# Altium footprint library Connectors Debug.PcbLib: 11 footprints
Each footprint in its own frame and in the unit in brackets; x right, y up, seen from the top. Pads: shape width x height; smd on the part's side, far side on the other; paste and mask are expansions set on the pad; w line width, h text height; cw(c..) or ccw(c..) is an arc to the next point about the centre after c.
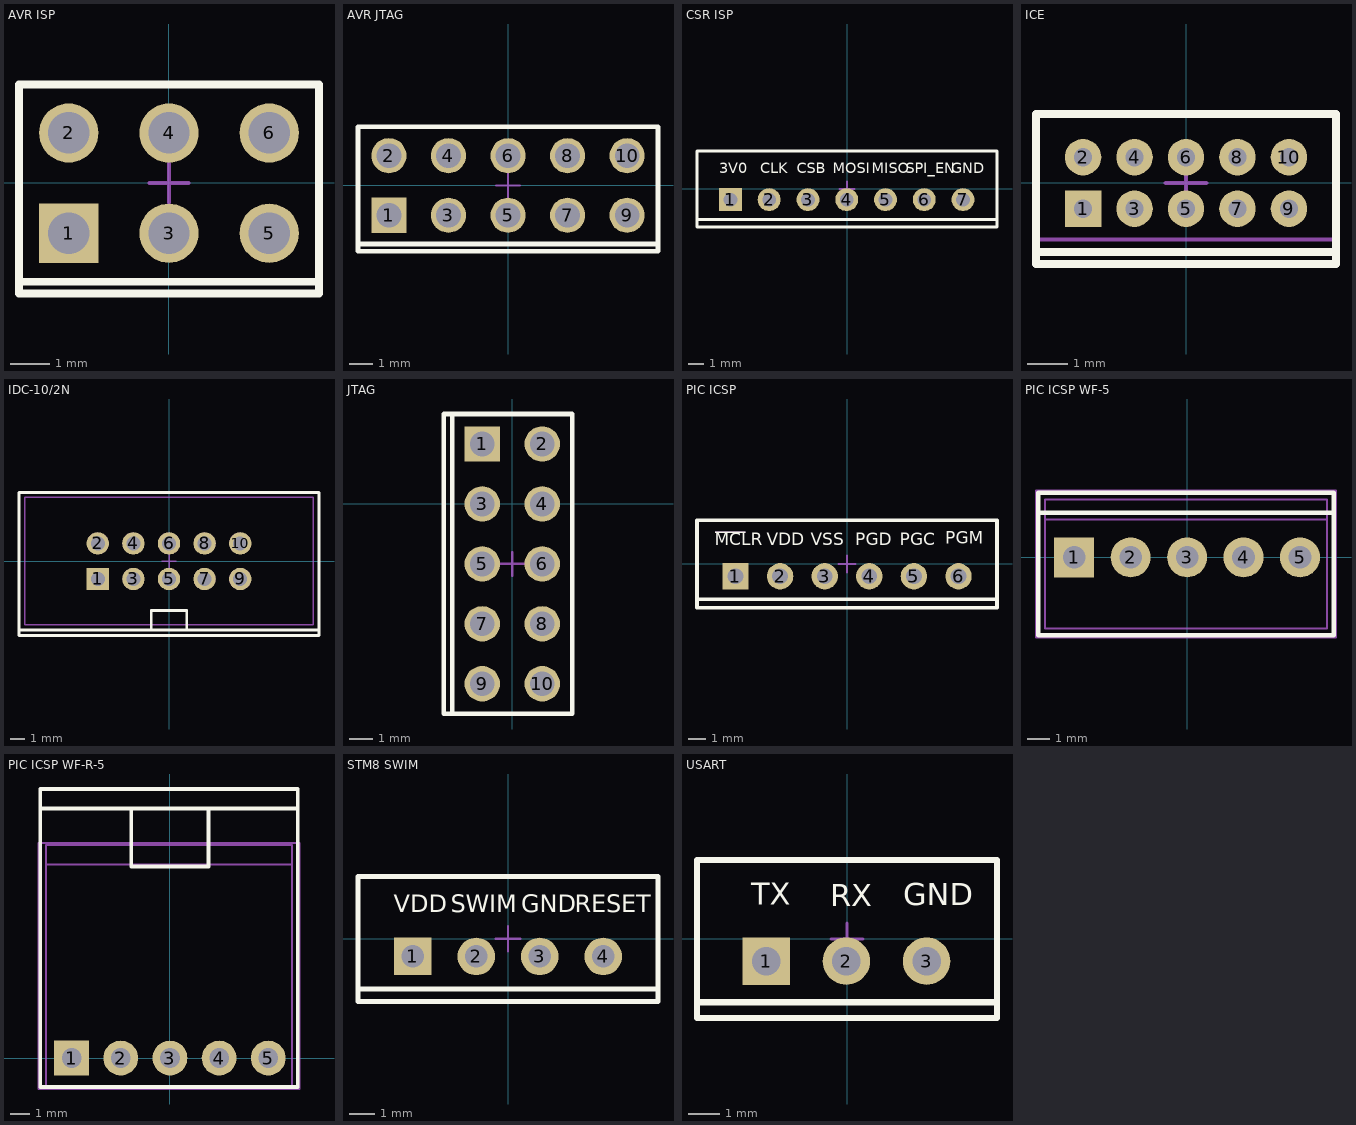
[diagram p0: the footprints below, top view; thin cyan lines are the x and y axes]

## AVR ISP [mm] "Connector; Place for header 3x2pins 2.54 pitch"
pads (6):
  rect 1.5x1.5 hole 1.05: 1(-2.539,-1.273)
  round 1.5 hole 1.05: 2(-2.539,1.267) 3(0.001,-1.273) 4(0.001,1.267) 5(2.541,-1.273) 6(2.541,1.267)
Top Overlay:
  lines w0.2: -3.799,-2.503 -3.799,-2.803 3.801,-2.803 3.801,-2.503 ; -3.799,-2.503 3.801,-2.503 ; -3.799,-2.503 -3.799,2.497 3.801,2.497 3.801,-2.503
Top Package:
  circle w0.1: c0.001,1.267 r0.568
  circle w0.1: c2.541,1.267 r0.568
  circle w0.1: c0.001,-1.273 r0.568
  circle w0.1: c2.541,-1.273 r0.568
  circle w0.1: c-2.539,1.267 r0.568
  circle w0.1: c-2.539,-1.273 r0.568
  lines w0.1: -3.799,-2.5 3.801,-2.5 ; -3.799,-2.803 3.801,-2.803 3.801,2.497 -3.799,2.497 -3.799,-2.803
Top Border:
  lines w0.1: -0.498,-0.001 0.502,-0.001 ; 0.002,-0.501 0.002,0.499 ; -3.799,-2.803 3.801,-2.803 3.801,2.497 -3.799,2.497 -3.799,-2.803

## AVR JTAG [mm] "Connector; Place for header 5x2pins 2.54 pitch"
pads (10):
  rect 1.5x1.5 hole 1.05: 1(-5.079,-1.273)
  round 1.5 hole 1.05: 2(-5.079,1.267) 3(-2.539,-1.273) 4(-2.539,1.267) 5(0.001,-1.273) 6(0.001,1.267) 7(2.541,-1.273) 8(2.541,1.267) 9(5.081,-1.273) 10(5.081,1.267)
Top Overlay:
  lines w0.2: -6.4,-2.503 6.4,-2.503 ; -6.4,-2.803 -3.799,-2.803 3.801,-2.803 6.4,-2.803 6.4,2.497 -6.4,2.497 -6.4,-2.803
Top Package:
  circle w0.1: c0.001,1.267 r0.568
  circle w0.1: c2.541,1.267 r0.568
  circle w0.1: c0.001,-1.273 r0.568
  circle w0.1: c2.541,-1.273 r0.568
  circle w0.1: c-2.539,1.267 r0.568
  circle w0.1: c-2.539,-1.273 r0.568
  circle w0.1: c5.081,1.267 r0.568
  circle w0.1: c5.081,-1.273 r0.568
  circle w0.1: c-5.079,1.267 r0.568
  circle w0.1: c-5.079,-1.273 r0.568
  lines w0.1: -6.4,-2.5 6.4,-2.5 ; -6.4,-2.8 6.4,-2.8 6.4,2.497 -6.4,2.497 -6.4,-2.8
Top Border:
  lines w0.1: -0.498,-0.001 0.502,-0.001 ; 0.002,-0.501 0.002,0.499 ; -6.4,-2.803 6.4,-2.803 6.4,2.497 -6.4,2.497 -6.4,-2.803

## CSR ISP [mm] "Connector; Place for header 7pins 2.54 pitch"
pads (7):
  rect 1.5x1.5 hole 0.9: 1(-7.64,-0.7)
  round 1.5 hole 0.9: 2(-5.1,-0.7) 3(-2.56,-0.7) 4(-0.02,-0.7) 5(2.52,-0.7) 6(5.06,-0.7) 7(7.6,-0.7)
Top Overlay:
  lines w0.2: -9.825,-2 9.825,-2 ; 9.805,-2.5 -9.83,-2.5 -9.83,2.5 9.83,2.5 9.83,-2.5
  text "CSB" at -3.3,0.814 h1.2
  text "MOSI" at -0.95,0.814 h1.2
  text "MISO" at 1.625,0.814 h1.2
  text "SPI_EN" at 3.85,0.814 h1.2
  text "GND" at 6.825,0.814 h1.2
  text "3V0" at -8.375,0.814 h1.2
  text "CLK" at -5.7,0.814 h1.2
Top Package:
  circle w0.1: c7.6,-0.7 r0.568
  circle w0.1: c5.06,-0.7 r0.568
  circle w0.1: c-7.64,-0.7 r0.568
  circle w0.1: c-5.1,-0.7 r0.568
  circle w0.1: c2.52,-0.7 r0.568
  circle w0.1: c-0.02,-0.7 r0.568
  circle w0.1: c-2.56,-0.7 r0.568
  lines w0.1: -9.825,-2 9.8,-2 ; -9.83,-2.5 -9.83,2.5 9.805,2.5 9.805,-2.5 -9.83,-2.5
  text "CSB" at -3.3,0.814 h1.2
  text "MOSI" at -0.95,0.814 h1.2
  text "MISO" at 1.625,0.814 h1.2
  text "SPI_EN" at 3.85,0.814 h1.2
  text "GND" at 6.825,0.814 h1.2
  text "3V0" at -8.375,0.814 h1.2
  text "CLK" at -5.7,0.814 h1.2
Top Border:
  lines w0.1: -0.5,0 0.5,0 ; 0,-0.5 0,0.5 ; -9.83,-2.5 9.83,-2.5 9.83,2.5 -9.83,2.5 -9.83,-2.5

## ICE [mm] "Connector; Place for header 5x2pins 1.27 pitch"
pads (10):
  rect 0.9x0.9 hole 0.45: 1(-2.54,-0.635)
  round 0.9 hole 0.45: 2(-2.54,0.635) 3(-1.27,-0.635) 4(-1.27,0.635) 5(0,-0.635) 6(0,0.635) 7(1.27,-0.635) 8(1.27,0.635) 9(2.54,-0.635) 10(2.54,0.635)
Top Overlay:
  lines w0.2: -3.7,-1.7 3.7,-1.7 ; -3.7,-2 -3.7,1.7 3.7,1.7 3.7,-2 -3.7,-2
Top Package:
  circle w0.1: c-2.54,-0.635 r0.381
  circle w0.1: c-2.54,0.635 r0.381
  circle w0.1: c-1.27,-0.635 r0.381
  circle w0.1: c-1.27,0.635 r0.381
  circle w0.1: c1.27,-0.635 r0.381
  circle w0.1: c1.27,0.635 r0.381
  circle w0.1: c2.54,-0.635 r0.381
  circle w0.1: c2.54,0.635 r0.381
  circle w0.1: c0,-0.635 r0.381
  circle w0.1: c0,0.635 r0.381
  lines w0.1: -3.7,-1.4 3.7,-1.4 ; -3.7,-1.7 -3.7,1.7 3.7,1.7 3.7,-1.7 -3.7,-1.7
Top Border:
  lines w0.1: -0.5,0 0.5,0 ; 0,-0.5 0,0.5 ; -3.7,-2 -3.7,1.7 3.7,1.7 3.7,-2 -3.7,-2

## IDC-10/2N [mm] "Connector; Header; 5x2 Position"
height 9
pads (10):
  rect 1.6x1.6 hole 1: 1(-5.08,-1.27)
  round 1.6 hole 1: 2(-5.08,1.27) 3(-2.54,-1.27) 4(-2.54,1.27) 5(0,-1.27) 6(0,1.27) 7(2.54,-1.27) 8(2.54,1.27) 9(5.08,-1.27) 10(5.08,1.27)
Top Overlay:
  lines w0.2: -1.27,-4.87 -1.27,-3.52 1.27,-3.52 1.27,-4.87 ; -10.7,-4.9 -10.7,4.9 10.7,4.9 10.7,-4.9 ; -10.7,-4.9 10.7,-4.9 ; -10.7,-4.9 -10.7,-5.3 10.7,-5.3 10.7,-4.9
Top Package:
  circle w0.1: c-5.08,1.27 r0.718
  circle w0.1: c0,1.27 r0.718
  circle w0.1: c2.54,1.27 r0.718
  circle w0.1: c-5.08,-1.27 r0.718
  circle w0.1: c0,-1.27 r0.718
  circle w0.1: c2.54,-1.27 r0.718
  circle w0.1: c-2.54,1.27 r0.718
  circle w0.1: c5.08,1.27 r0.718
  circle w0.1: c-2.54,-1.27 r0.718
  circle w0.1: c5.08,-1.27 r0.718
  lines w0.1: -1.27,-4.52 -1.27,-3.52 1.27,-3.52 1.27,-4.52 ; -10.3,-4.55 10.3,-4.55 10.3,4.55 -10.3,4.55 -10.3,-4.55
Top Border:
  lines w0.1: -10.3,-4.55 10.3,-4.55 10.3,4.55 -10.3,4.55 -10.3,-4.55 ; -0.508,0 0.508,0 -0.508,0 ; 0,-0.508 0,0.508 0,-0.508
3D body "User Library-IDC-10M.STEP": height 9.3, standoff -3.1, extent -10.15,-4.5 10.15,4.6

## JTAG [mm] "Connector; Place for header 5x2pins 2.54 pitch"
pads (10):
  rect 1.5x1.5 hole 1.05: 1(-1.27,2.54)
  round 1.5 hole 1.05: 2(1.27,2.54) 3(-1.27,0) 4(1.27,0) 5(-1.27,-2.54) 6(1.27,-2.54) 7(-1.27,-5.08) 8(1.27,-5.08) 9(-1.27,-7.62) 10(1.27,-7.62)
Top Overlay:
  lines w0.2: -2.9,3.8 -2.9,-8.89 -2.54,-8.89 ; -2.89,3.81 -2.54,3.81 ; -2.54,-8.89 -2.54,3.81 ; -2.54,-8.89 2.54,-8.89 2.54,3.81 -2.54,3.81
Top Package:
  circle w0.1: c1.27,-7.62 r0.568
  circle w0.1: c-1.27,-7.62 r0.568
  circle w0.1: c1.27,-5.08 r0.568
  circle w0.1: c-1.27,-5.08 r0.568
  circle w0.1: c1.27,-2.54 r0.568
  circle w0.1: c-1.27,-2.54 r0.568
  circle w0.1: c1.27,0 r0.568
  circle w0.1: c-1.27,0 r0.568
  circle w0.1: c1.27,2.54 r0.568
  circle w0.1: c-1.27,2.54 r0.568
  lines w0.1: -2.54,-8.89 2.54,-8.89 2.54,3.81 -2.54,3.81 -2.54,-8.89
Top Border:
  lines w0.1: -0.498,-2.541 0.502,-2.541 ; 0.002,-3.041 0.002,-2.041 ; -2.9,-8.9 2.54,-8.9 2.54,3.81 -2.9,3.81 -2.9,-8.9

## PIC ICSP [mm] "Connector; Place for header 6pins 2.54 pitch"
pads (6):
  rect 1.5x1.5 hole 0.9: 1(-6.35,-0.7)
  round 1.5 hole 0.9: 2(-3.81,-0.7) 3(-1.27,-0.7) 4(1.27,-0.7) 5(3.81,-0.7) 6(6.35,-0.7)
Top Overlay:
  lines w0.08: -7.5,1.8 -5.8,1.8
  lines w0.2: -8.54,-2 8.54,-2 ; -8.54,-2.5 8.54,-2.5 8.54,2.5 -8.54,2.5 -8.54,-2.5
  text "PGD" at 0.47,0.825 h1.2
  text "VDD" at -4.575,0.825 h1.2
  text "MCLR" at -7.53,0.825 h1.2
  text "PGC" at 3.01,0.825 h1.2
  text "VSS" at -2.07,0.825 h1.2
  text "PGM" at 5.6,0.9 h1.2
Top Package:
  circle w0.1: c-1.27,-0.7 r0.4
  circle w0.1: c1.27,-0.7 r0.4
  circle w0.1: c-6.35,-0.7 r0.4
  circle w0.1: c-3.81,-0.7 r0.4
  circle w0.1: c6.35,-0.7 r0.4
  circle w0.1: c3.81,-0.7 r0.4
  lines w0.08: -7.5,1.8 -5.8,1.8
  lines w0.1: -8.54,-2 8.54,-2 ; -8.54,-2.5 -8.54,2.5 8.54,2.5 8.54,-2.5 -8.54,-2.5
  text "PGD" at 0.47,0.825 h1.2
  text "MCLR" at -7.53,0.825 h1.2
  text "VDD" at -4.575,0.825 h1.2
  text "PGC" at 3.01,0.825 h1.2
  text "VSS" at -2.07,0.825 h1.2
  text "PGM" at 5.6,0.9 h1.2
Top Border:
  lines w0.1: -0.5,0 0.5,0 ; 0,-0.5 0,0.5 ; -8.54,-2.5 8.54,-2.5 8.54,2.5 -8.54,2.5 -8.54,-2.5

## PIC ICSP WF-5 [mm]
height 11.4
pads (5):
  rect 1.8x1.8 hole 1.02: 1(-5.08,0)
  round 1.8 hole 1.02: 2(-2.54,0) 3(0,0) 4(2.54,0) 5(5.08,0)
Top Overlay:
  lines w0.2: -6.7,2 6.6,2 ; -6.7,-3.5 6.6,-3.5 6.6,2.9 -6.7,2.9 -6.7,-3.5
Top Package:
  circle w0.1: c-5.08,0 r0.4
  circle w0.1: c2.54,0 r0.4
  circle w0.1: c5.08,0 r0.4
  circle w0.1: c-2.54,0 r0.4
  circle w0.1: c0,0 r0.4
  lines w0.1: -6.4,1.7 6.3,1.7 ; -6.4,-3.2 6.3,-3.2 6.3,2.6 -6.4,2.6 -6.4,-3.2
Top Border:
  lines w0.1: -0.5,0 0.5,0 ; 0,-0.5 0,0.5 ; -6.8,-3.6 -6.8,3 6.7,3 6.7,-3.6 -6.8,-3.6
3D body "User Library-WF-5.step": height 11.64, standoff -2.76, extent -6.4,-3.2 6.3,2.6

## PIC ICSP WF-R-5 [mm]
height 5.9
pads (5):
  rect 1.8x1.8 hole 1.02: 1(-5.08,0)
  round 1.8 hole 1.02: 2(-2.54,0) 3(0,0) 4(2.54,0) 5(5.08,0)
Top Overlay:
  lines w0.2: -6.7,12.9 6.6,12.9 ; -2,12.9 -2,9.9 2,9.9 2,12.9 ; -6.7,-1.5 6.6,-1.5 6.6,13.9 -6.7,13.9 -6.7,-1.5
Top Package:
  circle w0.1: c-5.08,0 r0.4
  circle w0.1: c2.54,0 r0.4
  circle w0.1: c5.08,0 r0.4
  circle w0.1: c-2.54,0 r0.4
  circle w0.1: c0,0 r0.4
  lines w0.1: -6.4,10 6.3,10 ; -6.4,-1.5 6.3,-1.5 6.3,11 -6.4,11 -6.4,-1.5
Top Border:
  lines w0.1: -0.5,0 0.5,0 ; 0,-0.5 0,0.5 ; -6.8,-1.6 -6.8,11.1 6.7,11.1 6.7,-1.6 -6.8,-1.6
3D body "User Library-DS1070-5MR (WF-5RA CONNFLY).step": height 6, standoff -3.3, extent -6.45,-0.5 6.25,13.6

## STM8 SWIM [mm] "Connector; Place for header 4pins 2.54 pitch"
pads (4):
  rect 1.5x1.5 hole 0.9: 1(-3.81,-0.7)
  round 1.5 hole 0.9: 2(-1.27,-0.7) 3(1.27,-0.7) 4(3.81,-0.7)
Top Overlay:
  lines w0.2: -6,-2 6,-2 ; -6,-2.5 6,-2.5 6,2.5 -6,2.5 -6,-2.5
  text "RESET" at 2.67,0.825 h1.2
  text "GND" at 0.53,0.825 h1.2
  text "SWIM" at -2.285,0.825 h1.2
  text "VDD" at -4.575,0.825 h1.2
Top Package:
  circle w0.1: c-3.81,-0.7 r0.568
  circle w0.1: c-1.27,-0.7 r0.568
  circle w0.1: c1.27,-0.7 r0.568
  circle w0.1: c3.81,-0.7 r0.568
  lines w0.1: -6,-2 6,-2 ; -6,-2.5 6,-2.5 6,2.5 -6,2.5 -6,-2.5
  text "RESET" at 2.67,0.825 h1.2
  text "GND" at 0.53,0.825 h1.2
  text "SWIM" at -2.285,0.825 h1.2
  text "VDD" at -4.575,0.825 h1.2
Top Border:
  lines w0.1: -0.5,0 0.5,0 ; 0,-0.5 0,0.5 ; -6,-2.5 -6,2.5 6,2.5 6,-2.5 -6,-2.5

## USART [mm] "Connector; Place for header 3pins 2.54 pitch"
pads (3):
  rect 1.5x1.5 hole 0.9: 1(-2.56,-0.7)
  round 1.5 hole 0.9: 2(-0.02,-0.7) 3(2.52,-0.7)
Top Overlay:
  lines w0.2: -4.75,-2 4.75,-2 ; -4.75,-2.5 4.75,-2.5 4.75,2.5 -4.75,2.5 -4.75,-2.5
  text "GND" at 1.78,0.825 h1.2
  text "RX" at -0.535,0.8 h1.2
  text "TX" at -3.025,0.85 h1.2
Top Package:
  circle w0.1: c-2.56,-0.7 r0.568
  circle w0.1: c-0.02,-0.7 r0.568
  circle w0.1: c2.52,-0.7 r0.568
  lines w0.1: -4.75,-2 4.75,-2 ; -4.75,-2.5 4.725,-2.5 4.725,2.5 -4.75,2.5 -4.75,-2.5
  text "GND" at 1.78,0.825 h1.2
  text "RX" at -0.535,0.8 h1.2
  text "TX" at -3.025,0.85 h1.2
Top 3DPackage:
  lines w0.1: -0.5,0 0.5,0 ; 0,-0.5 0,0.5 ; -4.75,-2.5 -4.75,2.5 4.75,2.5 4.75,-2.5 -4.75,-2.5